# Altium schematic symbol library TBMXNPX.SchLib: 6 symbols
Pins are listed as number, name and electrical type; pins without a type are passive.

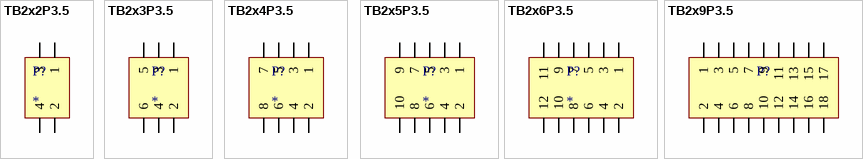
[diagram p0: symbols TB2x2P3.5 to TB2x9P3.5]

## TB2x2P3.5
designator P?
Connector Pitch 3.5mm with 2 rows and 2 columns; Digi-Key Part Number: 277-8738-ND
footprint TB2x2P3.5 (Terminal Block 2x3 with pitch 3.5mm)
pins: 1, 2, 3, 4

## TB2x3P3.5
designator P?
Connector Pitch 3.5mm with 2 rows and 3 columns; Digi-Key Part Number: 277-9777-ND
footprint TB2x3P3.5 (Terminal Block 2x3 with pitch 3.5mm)
pins: 1, 2, 3, 4, 5, 6

## TB2x4P3.5
designator P?
Connector Pitch 3.5mm with 2 rows and 4 columns; Digi-Key Part Number: 277-8739-ND
footprint TB2x4P3.5 (Terminal Block 2x4 with pitch 3.5mm)
pins: 1, 2, 3, 4, 5, 6, 7, 8

## TB2x5P3.5
designator P?
Connector Pitch 3.5mm with 2 rows and 5 columns; Digi-Key Part Number: 277-8740-ND
footprint TB2x5P3.5 (Terminal Block 2x5 with pitch 3.5mm)
pins: 1, 2, 3, 4, 5, 6, 7, 8, 9, 10

## TB2x6P3.5
designator P?
Connector Pitch 3.5mm with 2 rows and 6 columns; Digi-Key Part Number: 277-8741-ND
footprint TB2x6P3.5 (Terminal Block 2x6 with pitch 3.5mm)
pins: 1, 2, 3, 4, 5, 6, 7, 8, 9, 10, 11, 12

## TB2x9P3.5
designator P?  (value not drawn)
Connector Pitch 3.5mm with 2 rows and 9 columns
footprint TB2x9P3.5 (Terminal Block 2x11 with pitch 3.5mm)
pins: 1, 2, 3, 4, 5, 6, 7, 8, 9, 10, 11, 12, 13, 14, 15, 16, 17, 18